# Altium footprint library CartSimple.PCBLIB: 166 footprints (part 4 of 11)
Each footprint in its own frame and in the unit in brackets; x right, y up, seen from the top. Pads: shape width x height; smd on the part's side, far side on the other; paste and mask are expansions set on the pad; w line width, h text height; cw(c..) or ccw(c..) is an arc to the next point about the centre after c.
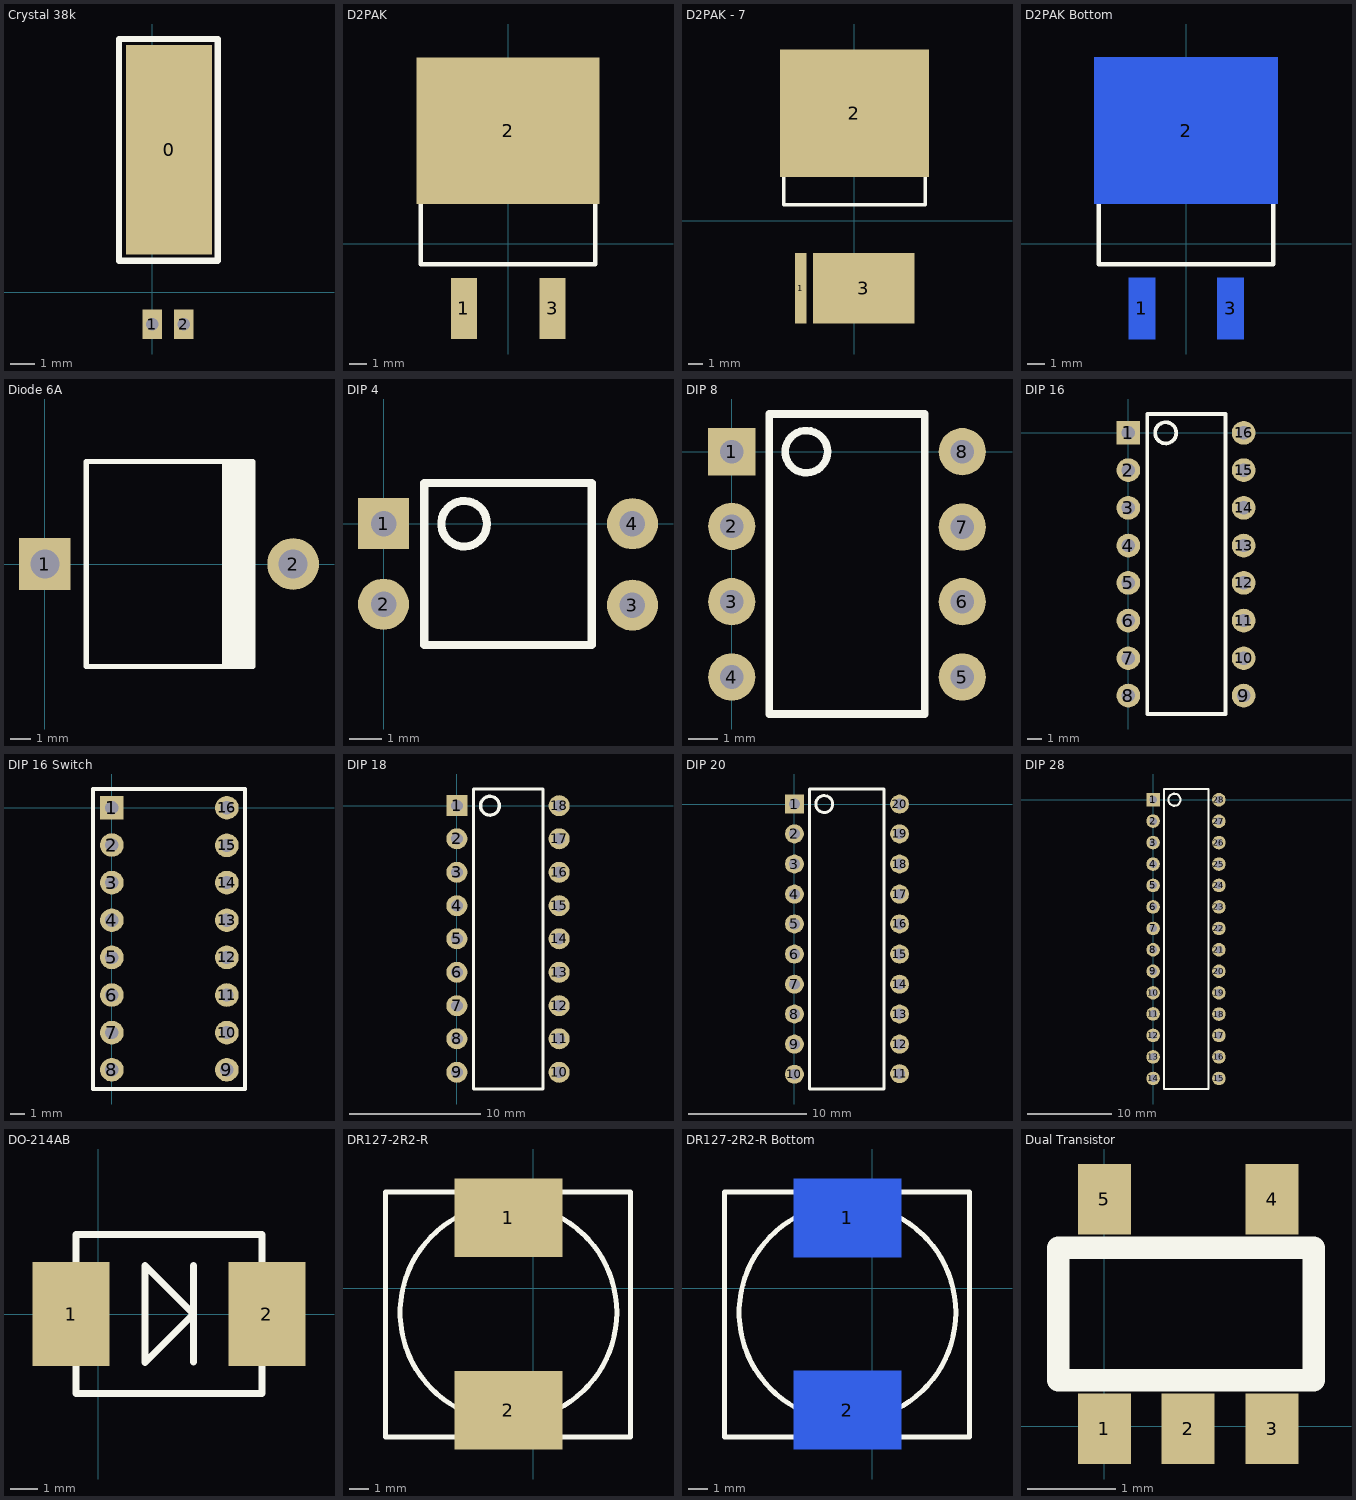
[diagram p3: the footprints below, top view; thin cyan lines are the x and y axes]

## Crystal 38k [mm]
pads (3):
  rect 3.5x8.5 smd: 0(0.675,5.775)
  rect 0.8x1.2 hole 0.5: 1(0,-1.3) 2(1.275,-1.3)
Top Overlay:
  lines w0.254: -1.35,1.275 2.65,1.275 2.65,10.275 -1.35,10.275 -1.35,1.275

## D2PAK [mm]
pads (3):
  rect 1.5x3.5 smd: 1(-2.525,-3.7) 3(2.555,-3.7)
  rect 10.5x8.4 smd: 2(0,6.5)
Top Overlay:
  lines w0.254: -5,8.475 5,8.475 ; -5,-1.175 5,-1.175 5,10 -5,10 -5,-1.175

## D2PAK - 7 [mm]
pads (3):
  rect 0.8x5 smd: 1(-3.8,-4.775)
  rect 10.5x9 smd: 2(0,7.575)
  rect 7.175x5 smd: 3(0.65,-4.775)
Top Overlay:
  lines w0.254: -5,8.475 -4.025,8.475 -4.025,3.2 4.125,3.2 4.125,8.475 5,8.475 ; -5,1.125 5,1.125 5,10.125 -5,10.125 -5,1.125

## D2PAK Bottom [mm]
pads (3):
  rect 1.5x3.5 smd far side: 1(-2.525,-3.7) 3(2.555,-3.7)
  rect 10.5x8.4 smd far side: 2(0,6.5)
Top Overlay:
  lines w0.254: -5,8.475 5,8.475 ; -5,-1.175 5,-1.175 5,10 -5,10 -5,-1.175

## Diode 6A [mm]
pads (2):
  rect 2.5x2.5 hole 1.4: 1(0,0)
  round 2.5 hole 1.4: 2(12,0)
Top Overlay:
  rectangle: 8.55,-4.925 10.05,4.925
  lines w0.254: 2,-4.95 2,4.95 10.05,4.95 10.05,-4.95 2,-4.95

## DIP 4 [mm]
pads (4):
  rect 1.6x1.6 hole 0.8: 1(0,0)
  round 1.6 hole 0.8: 2(0,-2.525) 3(7.8,-2.55) 4(7.8,0)
Top Overlay:
  circle w0.254: c2.525,0 r0.716
  lines w0.254: 1.275,-3.8 6.525,-3.8 6.525,1.275 1.275,1.275 1.275,-3.8

## DIP 8 [mm]
pads (8):
  rect 1.6x1.6 hole 0.8: 1(0,0)
  round 1.6 hole 0.8: 2(0,-2.525) 3(0,-5.075) 4(0,-7.625) 5(7.8,-7.625) 6(7.8,-5.075) 7(7.8,-2.55) 8(7.8,0)
Top Overlay:
  circle w0.254: c2.525,0 r0.716
  lines w0.254: 1.275,-8.875 6.525,-8.875 6.525,1.275 1.275,1.275 1.275,-8.875

## DIP 16 [mm]
pads (16):
  rect 1.6x1.6 hole 0.9: 1(0,0)
  round 1.6 hole 0.9: 2(0,-2.525) 3(0,-5.075) 4(0,-7.625) 5(0,-10.15) 6(0,-12.7) 7(0,-15.25) 8(0,-17.775) 9(7.8,-17.775) 10(7.8,-15.25) 11(7.8,-12.7) 12(7.8,-10.15) 13(7.8,-7.625) 14(7.8,-5.075) 15(7.8,-2.525) 16(7.8,0)
Top Overlay:
  circle w0.254: c2.525,0 r0.716
  lines w0.254: 1.275,-19.025 6.575,-19.025 6.575,1.275 1.275,1.275 1.275,-19.025

## DIP 16 Switch [mm]
pads (16):
  rect 1.6x1.6 hole 0.9: 1(0,0)
  round 1.6 hole 0.9: 2(0,-2.525) 3(0,-5.075) 4(0,-7.625) 5(0,-10.15) 6(0,-12.7) 7(0,-15.25) 8(0,-17.775) 9(7.8,-17.775) 10(7.8,-15.25) 11(7.8,-12.7) 12(7.8,-10.15) 13(7.8,-7.625) 14(7.8,-5.075) 15(7.8,-2.55) 16(7.8,0)
Top Overlay:
  lines w0.254: -1.275,-19.075 9.025,-19.075 9.025,1.275 -1.275,1.275 -1.275,-19.075

## DIP 18 [mm]
pads (18):
  rect 1.6x1.6 hole 0.9: 1(0,0)
  round 1.6 hole 0.9: 2(0,-2.525) 3(0,-5.075) 4(0,-7.625) 5(0,-10.15) 6(0,-12.7) 7(0,-15.25) 8(0,-17.775) 9(0,-20.325) 10(7.8,-20.325) 11(7.8,-17.775) 12(7.8,-15.25) 13(7.8,-12.7) 14(7.8,-10.15) 15(7.8,-7.625) 16(7.8,-5.075) 17(7.8,-2.525) 18(7.8,0)
Top Overlay:
  circle w0.254: c2.525,0 r0.716
  lines w0.254: 1.275,-21.6 1.275,1.275 6.575,1.275 6.575,-21.6 1.275,-21.6

## DIP 20 [mm]
pads (20):
  rect 1.6x1.6 hole 0.9: 1(0,0)
  round 1.6 hole 0.9: 2(0,-2.525) 3(0,-5.075) 4(0,-7.625) 5(0,-10.15) 6(0,-12.7) 7(0,-15.25) 8(0,-17.775) 9(0,-20.325) 10(0,-22.875) 11(8.9,-22.825) 12(8.9,-20.325) 13(8.9,-17.775) 14(8.9,-15.25) 15(8.9,-12.7) 16(8.9,-10.15) 17(8.9,-7.625) 18(8.9,-5.075) 19(8.9,-2.525) 20(8.9,0)
Top Overlay:
  circle w0.254: c2.525,0 r0.716
  lines w0.254: 1.275,-24.125 1.275,1.275 7.6,1.275 7.6,-24.125 1.275,-24.125

## DIP 28 [mm]
pads (28):
  rect 1.6x1.6 hole 0.9: 1(0,0)
  round 1.6 hole 0.9: 2(0,-2.525) 3(0,-5.075) 4(0,-7.625) 5(0,-10.15) 6(0,-12.7) 7(0,-15.25) 8(0,-17.775) 9(0,-20.325) 10(0,-22.875) 11(0,-25.375) 12(0,-27.925) 13(0,-30.475) 14(0,-33.025) 15(7.8,-33.025) 16(7.8,-30.475) 17(7.8,-27.925) 18(7.8,-25.4) 19(7.8,-22.875) 20(7.8,-20.325) 21(7.8,-17.775) 22(7.8,-15.25) 23(7.8,-12.7) 24(7.8,-10.15) 25(7.8,-7.625) 26(7.8,-5.075) 27(7.8,-2.55) 28(7.8,0.004)
Top Overlay:
  circle w0.254: c2.525,0 r0.716
  lines w0.254: 1.275,-34.275 1.275,1.275 6.55,1.275 6.55,-34.275 1.275,-34.275

## DO-214AB [mm]
pads (2):
  rect 2.8x3.8 smd: 1(-1,0) 2(6.15,0)
Top Overlay:
  lines w0.254: 3.475,-1.75 3.475,1.775 ; -0.825,-2.9 5.975,-2.9 5.975,2.9 -0.825,2.9 -0.825,-2.9 ; 1.7,-1.775 3.475,0 1.7,1.775 1.7,-1.775

## DR127-2R2-R [mm]
pads (2):
  rect 5.5x4 smd: 1(-1.25,3.575) 2(-1.25,-6.225)
Top Overlay:
  circle w0.254: c-1.25,-1.25 r5.525
  lines w0.254: -7.525,-7.6 4.975,-7.6 4.975,4.9 -7.525,4.9 -7.525,-7.6

## DR127-2R2-R Bottom [mm]
pads (2):
  rect 5.5x4 smd far side: 1(-1.25,3.575) 2(-1.25,-6.225)
Top Overlay:
  circle w0.254: c-1.25,-1.25 r5.525
  lines w0.254: -7.525,-7.6 -7.525,4.9 4.975,4.9 4.975,-7.6 -7.525,-7.6

## Dual Transistor [mm]
pads (5):
  rect 0.6x0.8 smd: 1(0,-0.025) 2(0.95,-0.025) 3(1.9,-0.025) 4(1.9,2.575) 5(0,2.575)
Top Overlay:
  lines w0.254: -0.525,0.525 2.375,0.525 2.375,2.025 -0.525,2.025 -0.525,0.525